# Altium schematic symbol library Socket17x17_OLD.SchLib: 1 symbol
Pins are listed as number, name and electrical type; pins without a type are passive.

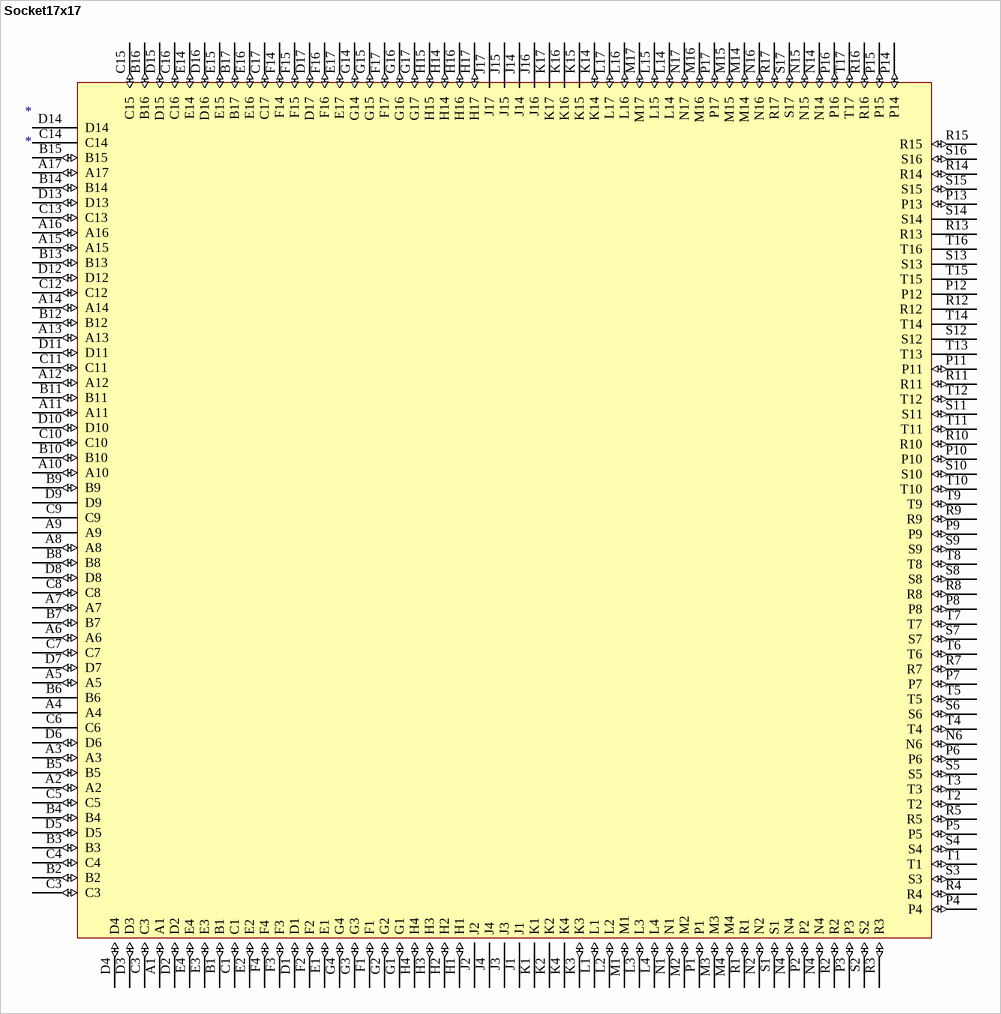
[diagram p0: symbol Socket17x17]

## Socket17x17
designator *
PGA ZIF Test & Burn-in Socket for Any Footprint on Std 8x8 to 21x21 Grid
pins: A1 (io), A2 (io), A3 (io), A4 (power), A5 (io), A6 (io), A7 (io), A8 (io), A9 (power), A10 (io), A11 (io), A12 (io), A13 (io), A14 (io), A15 (io), A16 (io), A17 (io), B1 (io), B2 (io), B3 (io), B4 (io), B5 (io), B6 (power), B7 (io), B8 (io), B9 (io), B10 (io), B11 (io), B12 (io), B13 (io), B14 (io), B15 (io), B16 (io), B17 (io), C1 (io), C3 (io), C3 (io), C4 (io), C5 (io), C6 (power), C7 (io), C8 (io), C9 (power), C10 (io), C11 (io), C12 (io), C13 (io), C14 (power), C15 (io), C16 (io), C17 (io), D1 (io), D2 (io), D3 (io), D4 (io), D5 (io), D6 (io), D7 (io), D8 (io), D9 (power), D10 (io), D11 (io), D12 (io), D13 (io), D14 (power), D15 (io), D16 (io), D17 (io), E1 (io), E2 (io), E3 (io), E4 (io), E14 (io), E15 (io), E16 (io), E17 (io), F1 (io), F2 (io), F3 (io), F4 (io), F14 (io), F15 (io), F16 (io), F17 (io), G1 (io), G2 (io), G3 (io), G4 (io), G14 (io), G15 (io), G16 (io), G17 (io), H1 (io), H2 (io), H3 (io), H4 (io), H14 (io), H15 (io), H16 (io), H17 (io), J1 (power), J2 (power), J3 (power), J4 (power), J14 (power), J15 (power), J16 (power), J17 (power), K1 (power), K2 (power), K3 (io), K4 (power), K14 (io), K15 (power), K16 (power), K17 (power), L1 (io), L2 (io), L3 (io), L4 (io), L14 (io), L15 (io), L16 (io), L17 (io), M1 (io), M2 (io), M3 (io), M4 (io), M14 (io), M15 (io), M16 (io), M17 (io), N1 (io), N2 (io), N4 (io), N4 (io), N6 (io), N14 (io), N15 (io), N16 (io), N17 (io), P1 (io), P2 (io), P3 (io), P4 (io), P5 (io), P6 (io), P7 (io), P8 (io), P9 (io), P10 (io), P11 (io), P12 (power), P13 (io), P14 (io), P15 (io), P16 (io), P17 (io), R1 (io), R2 (io), R3 (io), R4 (io), R5 (io), R7 (io), R8 (io), R9 (io), R10 (io), R11 (io), R12 (power), R13 (power), R14 (io), R15 (io), R16 (io), R17 (io), S1 (io), S2 (io), S3 (io), S4 (io), S5 (io), S6 (io), S7 (io), S8 (io), S9 (io), S10 (io), S11 (io), S12 (power), S13 (power), S14 (power), S15 (io), S16 (io), S17 (io), T1 (io), T2 (io), T3 (io), T4 (io), T5 (io), T6 (io), T7 (io), T8 (io), T9 (io), T10 (io), T11 (io), T12 (io), T13 (power), T14 (power), T15 (power), T16 (power), T17 (io)